# Altium footprint library mcu.PcbLib: 26 footprints (part 1 of 2)
Each footprint in its own frame and in the unit in brackets; x right, y up, seen from the top. Pads: shape width x height; smd on the part's side, far side on the other; paste and mask are expansions set on the pad; w line width, h text height; cw(c..) or ccw(c..) is an arc to the next point about the centre after c.
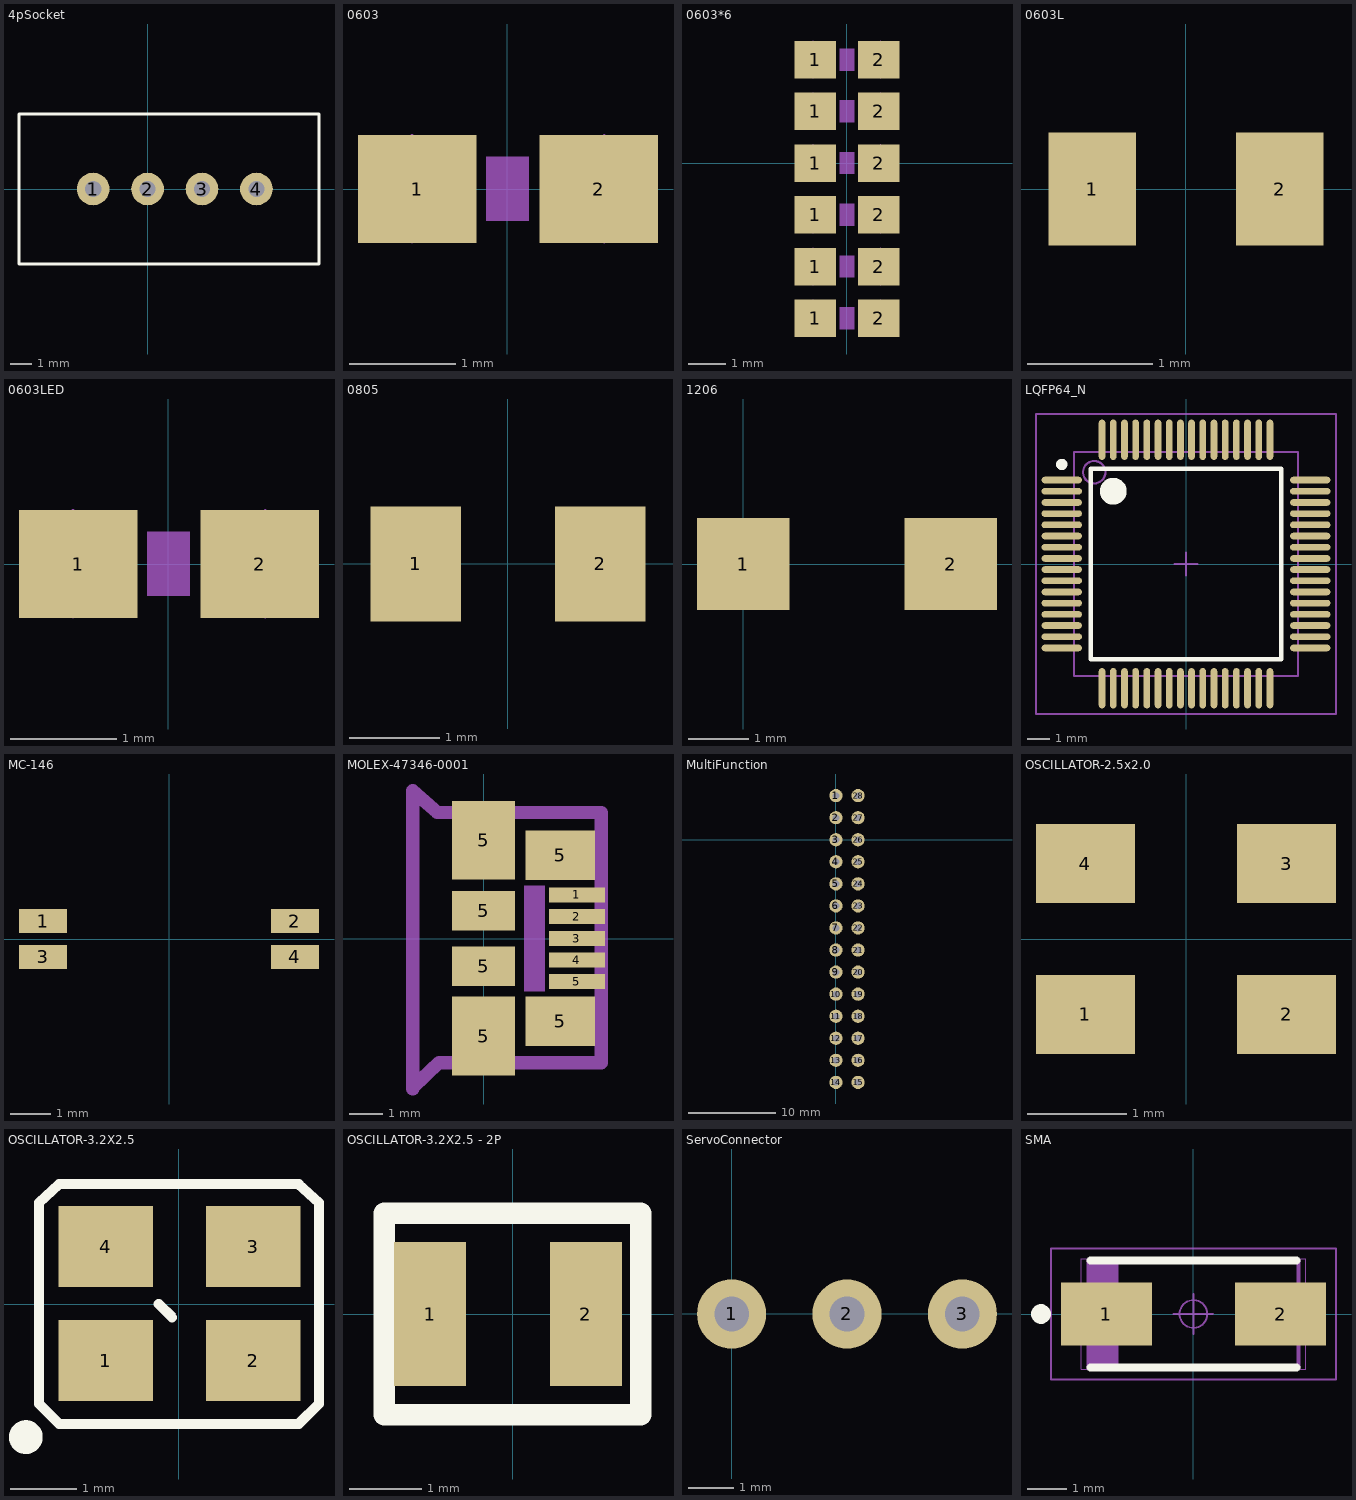
[diagram p0: the footprints below, top view; thin cyan lines are the x and y axes]

## 4pSocket [mil]
pads (4):
  round 60 hole 30: 1(-100,0) 2(0,0) 3(100,0) 4(200,0)
Top Overlay:
  lines w5: -236.22,-137.8 314.96,-137.8 314.96,137.8 -236.22,137.8 -236.22,-137.8

## 0603 [mil] "0603-RES"
pads (2):
  rect 44x40 smd: 1(-33.46,0) 2(34,0)
Mechanical 6:
  rectangle: -7.87,-11.81 8,12
Mechanical 16:
  rectangle: 13,-18.5 33,19
  rectangle: -32.98,-18.49 -13.29,19.01
  lines w1: -35.43,-19.69 -35.43,20 ; 36,-19.69 36,20
3D body: height 31.5, standoff 0, extent -31.5,-15.75 31.5,15.75

## 0603*6 [mil] "0603-RES"
pads (12):
  rect 44x40 smd: 1(-33.46,-165) 1(-33.46,-110) 1(-33.46,-55) 1(-33.46,0) 1(-33.46,55) 1(-33.46,110) 2(34,-165) 2(34,-110) 2(34,-55) 2(34,0) 2(34,55) 2(34,110)
Mechanical 6:
  rectangle: -7.87,-176.81 8,-153
  rectangle: -7.87,-121.81 8,-98
  rectangle: -7.87,98.19 8,122
  rectangle: -7.87,-66.81 8,-43
  rectangle: -7.87,43.19 8,67
  rectangle: -7.87,-11.81 8,12
Mechanical 16:
  rectangle: 13,-183.5 33,-146
  rectangle: -32.98,-183.49 -13.29,-145.99
  rectangle: 13,-128.5 33,-91
  rectangle: -32.98,-128.49 -13.29,-90.99
  rectangle: 13,91.5 33,129
  rectangle: -32.98,91.51 -13.29,129.01
  rectangle: 13,-73.5 33,-36
  rectangle: -32.98,-73.49 -13.29,-35.99
  rectangle: 13,36.5 33,74
  rectangle: -32.98,36.51 -13.29,74.01
  rectangle: -32.98,-18.49 -13.29,19.01
  rectangle: 13,-18.5 33,19
  lines w1: -35.43,-184.69 -35.43,-145 ; -35.43,-129.69 -35.43,-90 ; -35.43,-74.69 -35.43,-35 ; -35.43,-19.69 -35.43,20 ; -35.43,35.31 -35.43,75 ; -35.43,90.31 -35.43,130 ; 36,-184.69 36,-145 ; 36,-129.69 36,-90 ; 36,-74.69 36,-35 ; 36,-19.69 36,20 ; 36,35.31 36,75 ; 36,90.31 36,130

## 0603L [mm]
pads (2):
  rect 0.7x0.9 smd: 1(-0.75,0) 2(0.75,0)
3D body: height 0.8, standoff 0, extent -0.8,-0.4 0.8,0.4

## 0603LED [mil] "0603-RES"
pads (2):
  rect 44x40 smd: 1(-33.46,0) 2(34,0)
Mechanical 6:
  rectangle: -7.87,-11.81 8,12
Mechanical 16:
  rectangle: 13,-18.5 33,19
  rectangle: -32.98,-18.49 -13.29,19.01
  lines w1: -35.43,-19.69 -35.43,20 ; 36,-19.69 36,20
3D body: height 19.68, standoff 0, extent -30,-15 30,15

## 0805 [mm]
pads (2):
  rect 1x1.27 smd: 1(-1.016,0) 2(1.016,0)
3D body: height 0.8, standoff 0, extent -1.27,-0.762 1.27,0.762

## 1206 [mil]
pads (2):
  rect 60x60 smd: 1(0,0) 2(135,0)

## LQFP64_N [mm]
pads (64):
  oval 1.8x0.3 smd: 1(-5.55,3.75) 2(-5.55,3.25) 3(-5.55,2.75) 4(-5.55,2.25) 5(-5.55,1.75) 6(-5.55,1.25) 7(-5.55,0.75) 8(-5.55,0.25) 9(-5.55,-0.25) 10(-5.55,-0.75) 11(-5.55,-1.25) 12(-5.55,-1.75) 13(-5.55,-2.25) 14(-5.55,-2.75) 15(-5.55,-3.25) 16(-5.55,-3.75) 33(5.55,-3.75) 34(5.55,-3.25) 35(5.55,-2.75) 36(5.55,-2.25) 37(5.55,-1.75) 38(5.55,-1.25) 39(5.55,-0.75) 40(5.55,-0.25) 41(5.55,0.25) 42(5.55,0.75) 43(5.55,1.25) 44(5.55,1.75) 45(5.55,2.25) 46(5.55,2.75) 47(5.55,3.25) 48(5.55,3.75)
  oval 0.3x1.8 smd: 17(-3.75,-5.55) 18(-3.25,-5.55) 19(-2.75,-5.55) 20(-2.25,-5.55) 21(-1.75,-5.55) 22(-1.25,-5.55) 23(-0.75,-5.55) 24(-0.25,-5.55) 25(0.25,-5.55) 26(0.75,-5.55) 27(1.25,-5.55) 28(1.75,-5.55) 29(2.25,-5.55) 30(2.75,-5.55) 31(3.25,-5.55) 32(3.75,-5.55) 49(3.75,5.55) 50(3.25,5.55) 51(2.75,5.55) 52(2.25,5.55) 53(1.75,5.55) 54(1.25,5.55) 55(0.75,5.55) 56(0.25,5.55) 57(-0.25,5.55) 58(-0.75,5.55) 59(-1.25,5.55) 60(-1.75,5.55) 61(-2.25,5.55) 62(-2.75,5.55) 63(-3.25,5.55) 64(-3.75,5.55)
Top Overlay:
  circle w0.25: c-5.55,4.45 r0.125
  circle w0.6: c-3.25,3.25 r0.3
  lines w0.2: -4.25,-4.25 -4.25,4.25 4.25,4.25 4.25,-4.25 -4.25,-4.25
Mechanical 13:
  circle w0.1: c-4.1,4.1 r0.5
  lines w0.1: -5,-5 -5,5 5,5 5,-5 -5,-5
Mechanical 15:
  lines w0.1: -0.5,0 0.5,0 ; 0,-0.5 0,0.5 ; -6.7,-6.7 -6.7,6.7 6.7,6.7 6.7,-6.7 -6.7,-6.7

## MC-146 [mm]
pads (4):
  rect 1.2x0.6 smd: 1(-3.15,0.45) 2(3.15,0.45) 3(-3.15,-0.45) 4(3.15,-0.45)

## MOLEX-47346-0001 [mil] "MOLEX-47346-0001"
pads (11):
  rect 67x18 smd: 1(111,52) 2(111,26) 3(111,0) 4(111,-25.59) 5(111,-51.18)
  rect 75x94 smd: 5(0,-116.14) 5(0,117)
  rect 75x47 smd: 5(0,-32.97) 5(0,33)
  rect 83x59 smd: 5(91,-98.43) 5(91,99)
Mechanical 8:
  rectangle: 48,-62.99 73,63
Mechanical 16:
  lines w1: -86.61,-177.17 -86.61,178 -82.68,178 -55.12,150 138,150 142,146 142,-145.67 138,-149.61 -55.12,-149.61 -82.68,-177.17 -86.61,-177.17
  lines w16: -84.65,-179.13 -84.65,-177.17 ; -84.65,-177.17 -84.65,176 -55.12,150 140,150 140,-147.64 -53.15,-147.64 -84.65,-177.17

## MultiFunction [mil]
pads (28):
  round 60 hole 30: 1(0,200) 2(0,100) 3(0,0) 4(0,-100) 5(0,-200) 6(0,-300) 7(0,-400) 8(0,-500) 9(0,-600) 10(0,-700) 11(0,-800) 12(0,-900) 13(0,-1000) 14(0,-1100) 15(100,-1100) 16(100,-1000) 17(100,-900) 18(100,-800) 19(100,-700) 20(100,-600) 21(100,-500) 22(100,-400) 23(100,-300) 24(100,-200) 25(100,-100) 26(100,0) 27(100,100) 28(100,200)

## OSCILLATOR-2.5x2.0 [mm] "OSCILLATOR-3.2X2.5"
pads (4):
  rect 1x0.8 smd: 1(-1.016,-0.762) 2(1.016,-0.762) 3(1.016,0.762) 4(-1.016,0.762)
3D body: height 0.9, standoff 0.5, extent -1.27,-1.016 1.27,1.016

## OSCILLATOR-3.2X2.5 [mil] "OSCILLATOR-3.2X2.5"
pads (4):
  rect 56x48 smd: 1(-43.31,-33.46) 2(44,-33.46) 3(44,34) 4(-43.31,34)
Top Overlay:
  circle w12: c-90.55,-78.74 r4
  lines w6: -11.81,0 -3.94,-7.87 ; -82.68,-59.06 -70.87,-70.87 71,-70.87 83,-59.06 83,60 71,71 -70.87,71 -82.68,60 -82.68,-59.06
Mechanical 16:
  lines w1: -82.68,-59.06 -70.87,-70.87 71,-70.87 83,-59.06 83,60 71,71 -70.87,71 -82.68,60 -82.68,-59.06

## OSCILLATOR-3.2X2.5 - 2P [mm] "OSCILLATOR-3.2X2.5"
pads (2):
  rect 1x2 smd: 1(-1.143,0) 2(1.016,0)
Top Overlay:
  lines w0.3: -1.778,-1.397 -1.778,1.397 1.778,1.397 1.778,-1.397 -1.778,-1.397

## ServoConnector [mil]
pads (3):
  round 60 hole 30: 1(0,0) 2(100,0) 3(200,0)

## SMA [mm]
pads (2):
  rect 2.3x1.6 smd: 1(-2.2,0) 2(2.2,0)
Top Overlay:
  circle w0.25: c-3.85,0 r0.125
  lines w0.2: -2.6,-1.35 2.6,-1.35 ; -2.6,1.35 2.6,1.35
Mechanical 15:
  lines w0.1: -2.548,-1.335 -2.548,1.335 ; -2.448,-1.335 -2.448,1.335 ; -2.348,-1.335 -2.348,1.335 ; -2.248,-1.335 -2.248,1.335 ; -2.148,-1.335 -2.148,1.335 ; -2.047,-1.335 -2.047,1.335 ; -1.948,-1.335 -1.948,1.335 ; -2.648,-1.335 -2.648,1.335 2.648,1.335 2.648,-1.335 -2.648,-1.335
Mechanical 16:
  circle w0.05: c0,0 r0.35
  lines w0.001: -2.83,-1.4 -2.83,1.4 2.83,1.4 2.83,-1.4 -2.83,-1.4
  lines w0.05: -0.5,0 0.5,0 ; 0,-0.5 0,0.5 ; -3.6,-1.65 -3.6,1.65 3.6,1.65 3.6,-1.65 -3.6,-1.65